# Altium schematic symbol library TCK-145.SchLib: 1 symbol
Pins are listed as number, name and electrical type; pins without a type are passive.

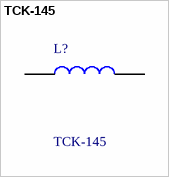
[diagram p0: symbol TCK-145]

## TCK-145
designator L?
Fixed Inductors Inductor 6.8uH 1A 300mOhm; Manufacturer_Name: Traco Power; Geometry.Height: 2.6mm; Mouser Part Number: 495-TCK-145; Mouser Price/Stock: https://www.mouser.co.uk/ProductDetail/TRACO-Power/TCK-145?qs=w%2Fv1CP2dgqoHn653AYaOSg%3D%3D; Manufacturer_Part_Number: TCK-145; Datasheet Link: https://tracopower.com/tck-145-datasheet/
footprint TCK145
pins: 1, 2